# Altium schematic symbol library 5037630491.SchLib: 1 symbol
Pins are listed as number, name and electrical type; pins without a type are passive.

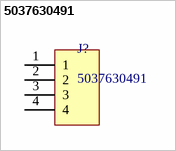
[diagram p0: symbol 5037630491]

## 5037630491
designator J?
1.00mm Pitch, Pico-Lock PCB Header, Single Row, Right Angle, Surface Mount, Gold over Nickel Plating, Positive Lock, 4 Circuits; Потребление, Вт: 0; Наименование: 5037630491; Назначение: 1.00mm Pitch, Pico-Lock PCB Header, Single Row, Right Angle, Surface Mount, Gold over Nickel Plating, Positive Lock, 4 Circuits
footprint 5037630491
pins: 1, 2, 3, 4